# Altium footprint library PCB1.PcbLib: 12 footprints
Each footprint in its own frame and in the unit in brackets; x right, y up, seen from the top. Pads: shape width x height; smd on the part's side, far side on the other; paste and mask are expansions set on the pad; w line width, h text height; cw(c..) or ccw(c..) is an arc to the next point about the centre after c.
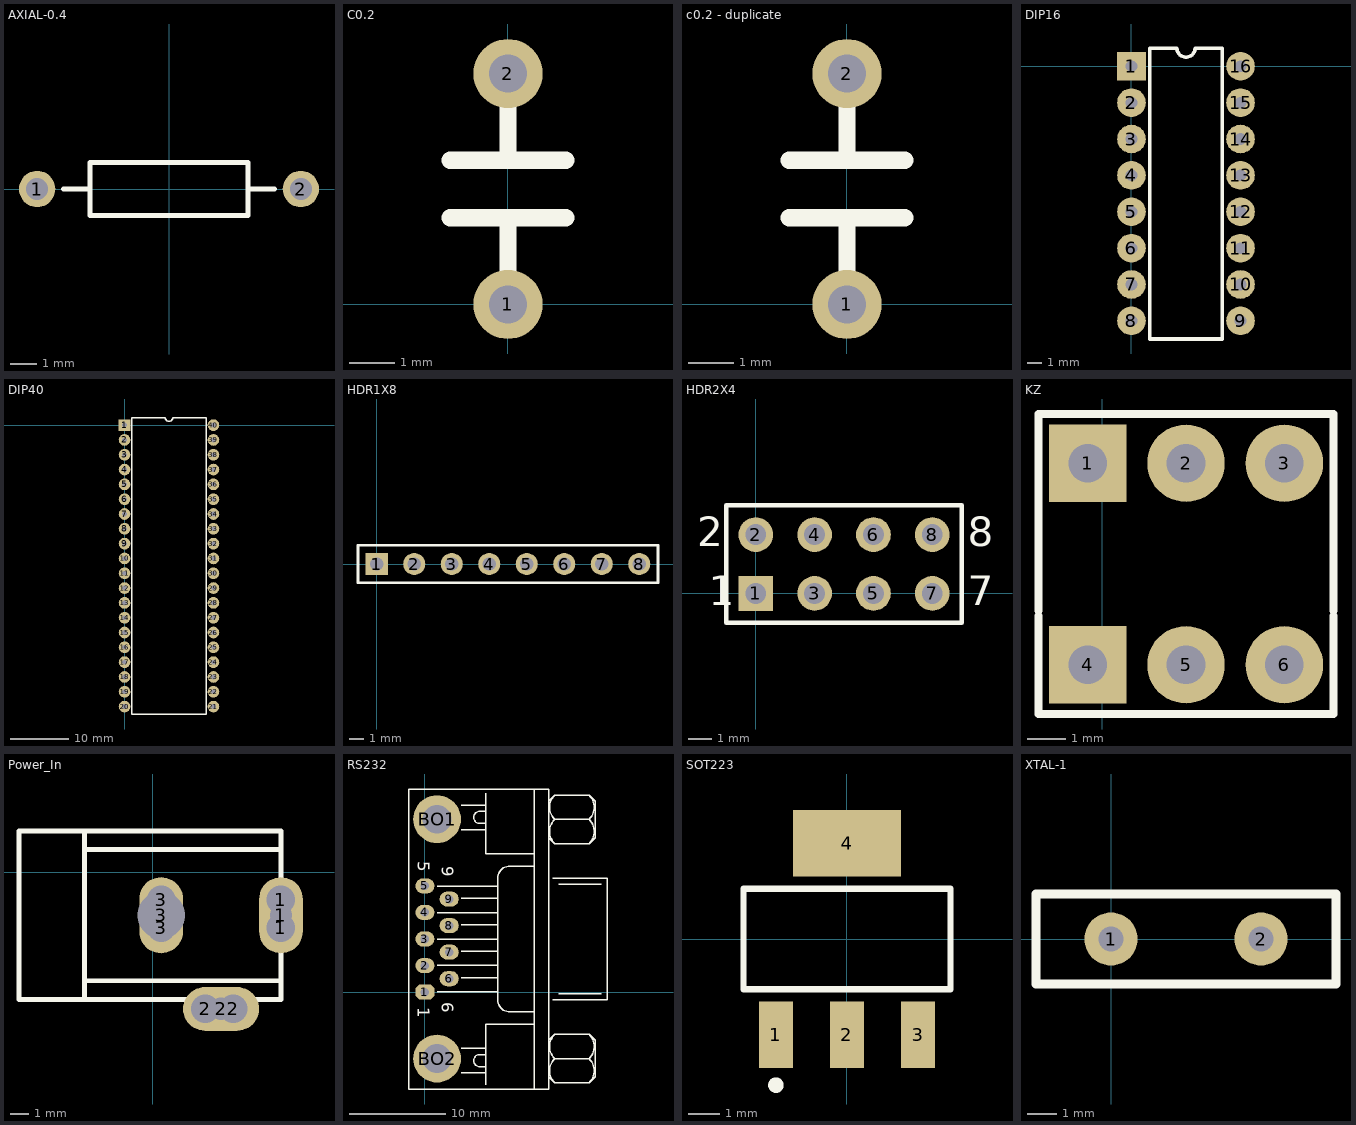
[diagram p0: the footprints below, top view; thin cyan lines are the x and y axes]

## AXIAL-0.4 [mm] "Resistor; 2 Leads"
height 2.032
pads (2):
  round 1.4 hole 0.85: 1(-5.08,0) 2(5.08,0)
Top Overlay:
  lines w0.2: -4.064,0 -3.048,0 ; 3.048,0 4.064,0 ; -3.048,-1.016 3.048,-1.016 3.048,1.016 -3.048,1.016 -3.048,-1.016

## C0.2 [mil]
pads (2):
  round 60 hole 33: 1(0,0) 2(0,200)
Top Overlay:
  lines w15: -50,75 50,75 ; -50,125 50,125 ; 0,0 0,75 ; 0,125 0,200

## c0.2 - duplicate [mil]
pads (2):
  round 60 hole 33: 1(0,0) 2(0,200)
Top Overlay:
  lines w15: -50,75 50,75 ; -50,125 50,125 ; 0,0 0,75 ; 0,125 0,200

## DIP16 [mm]
pads (16):
  rect 2x2 hole 0.813: 1(0,0)
  round 2 hole 0.813: 2(0,-2.54) 3(0,-5.08) 4(0,-7.62) 5(0,-10.16) 6(0,-12.7) 7(0,-15.24) 8(0,-17.78) 9(7.62,-17.78) 10(7.62,-15.24) 11(7.62,-12.7) 12(7.62,-10.16) 13(7.62,-7.62) 14(7.62,-5.08) 15(7.62,-2.54) 16(7.62,0)
Top Overlay:
  lines w0.254: 1.27,-19.05 1.27,1.27 3.175,1.27 ccw(c3.81,1.27) 4.445,1.27 6.35,1.27 6.35,-19.05 1.27,-19.05

## DIP40 [mm]
pads (40):
  rect 2x2 hole 0.813: 1(0,0)
  round 2 hole 0.813: 2(0,-2.54) 3(0,-5.08) 4(0,-7.62) 5(0,-10.16) 6(0,-12.7) 7(0,-15.24) 8(0,-17.78) 9(0,-20.32) 10(0,-22.86) 11(0,-25.4) 12(0,-27.94) 13(0,-30.48) 14(0,-33.02) 15(0,-35.56) 16(0,-38.1) 17(0,-40.64) 18(0,-43.18) 19(0,-45.72) 20(0,-48.26) 21(15.24,-48.26) 22(15.24,-45.72) 23(15.24,-43.18) 24(15.24,-40.64) 25(15.24,-38.1) 26(15.24,-35.56) 27(15.24,-33.02) 28(15.24,-30.48) 29(15.24,-27.94) 30(15.24,-25.4) 31(15.24,-22.86) 32(15.24,-20.32) 33(15.24,-17.78) 34(15.24,-15.24) 35(15.24,-12.7) 36(15.24,-10.16) 37(15.24,-7.62) 38(15.24,-5.08) 39(15.24,-2.54) 40(15.24,0)
Top Overlay:
  lines w0.254: 1.27,-49.53 1.27,1.27 6.985,1.27 ccw(c7.62,1.27) 8.255,1.27 13.97,1.27 13.97,-49.53 1.27,-49.53

## HDR1X8 [mm] "Connector; Header; 8 Position"
pads (8):
  rect 1.5x1.5 hole 0.9: 1(0,0)
  round 1.5 hole 0.9: 2(2.54,0) 3(5.08,0) 4(7.62,0) 5(10.16,0) 6(12.7,0) 7(15.24,0) 8(17.78,0)
Top Overlay:
  lines w0.2: -1.27,-1.27 19.05,-1.27 19.05,1.27 -1.27,1.27 -1.27,-1.27

## HDR2X4 [mm] "Connector; Header; 4x2 Position"
pads (8):
  rect 1.5x1.5 hole 0.9: 1(0,0)
  round 1.5 hole 0.9: 2(0,2.54) 3(2.54,0) 4(2.54,2.54) 5(5.08,0) 6(5.08,2.54) 7(7.62,0) 8(7.62,2.54)
Top Overlay:
  lines w0.2: -1.27,-1.27 8.89,-1.27 8.89,3.81 -1.27,3.81 -1.27,-1.27
  text "2" at -2.54,2.032 h1.27
  text "1" at -2.032,-0.508 h1.27
  text "7" at 9.144,-0.508 h1.27
  text "8" at 9.144,2.032 h1.27

## KZ [mm]
pads (6):
  rect 2x2 hole 1: 1(-0.381,-10.414) 4(-0.381,-15.621)
  round 2 hole 1: 2(2.159,-10.414) 3(4.699,-10.414) 5(2.159,-15.621) 6(4.699,-15.621)
Top Overlay:
  lines w0.2: -1.651,-14.351 -1.651,-16.891 5.969,-16.891 5.969,-14.351 ; -1.651,-14.224 -1.651,-11.684 -1.651,-9.144 5.969,-9.144 5.969,-11.684 5.969,-14.224

## Power_In [mil]
pads (9):
  rect 60x60 hole 60: 1(270,-116) 2(170,-287) 3(18,-57)
  oval 92x160 hole 47: 1(270,-90)
  rect 50x60 hole 60: 1(270,-57) 3(18,-116)
  rect 60x50 hole 60: 2(111,-287)
  oval 160x92 hole 47: 2(144,-287)
  oval 92x160 hole 100: 3(18,-90)
Top Overlay:
  lines w10: -143,-267 -143,87 ; -143,-228 270,-228 ; -143,48 270,48 ; -281,-267 270,-267 270,87 -281,87 -281,-267

## RS232 [mil]
pads (11):
  oct 78.74x62 hole 35: 1(0,0)
  oval 78.74x62 hole 35: 2(0,109.17) 3(0,218.33) 4(0,327.5) 5(0,436.67) 6(100,55) 7(100,164.17) 8(100,273.33) 9(100,382.5)
  round 196.67 hole 118.33: BO1(50,710.83) BO2(50,-273.33)
Top Overlay:
  lines w6: 50,1.67 300,1.67 ; 50,110 300,110 ; 50,218.33 300,218.33 ; 50,326.67 300,326.67 ; 50,435 300,435 ; 150,-331.67 250,-331.67 ; 150,-231.67 250,-231.67 ; 150,60 158.33,60 300,60 ; 150,168.33 300,168.33 ; 150,276.67 300,276.67 ; 150,385 300,385 ; 150,668.33 250,668.33 ; 150,768.33 250,768.33 ; 250,-381.67 250,-131.67 450,-131.67 ; 250,-306.67 225,-306.67 cw(c225,-281.67) 225,-256.67 250,-256.67 ; 250,693.33 225,693.33 cw(c225,718.33) 225,743.33 250,743.33 ; 250,818.33 250,568.33 450,568.33 ; 450,-398.33 450,835 ; 450,-81.67 350,-81.67 cw(c350,-31.67) 300,-31.67 300,468.33 cw(c350,468.33) 350,518.33 450,518.33 ; 508.33,-348.33 533.33,-373.33 675,-373.33 700,-348.33 700,-198.33 675,-173.33 533.33,-173.33 508.33,-198.33 ; 508.33,635 533.33,610 675,610 700,635 700,785 675,810 533.33,810 508.33,785 ; 525,-31.67 750,-31.67 750,468.33 525,468.33 ; 533.25,-373.42 cw(c583.33,-323.33) 533.25,-273.25 ; 533.25,-273.42 cw(c583.33,-223.33) 533.25,-173.25 ; 533.25,609.91 cw(c583.33,660) 533.25,710.09 ; 533.25,709.91 cw(c583.33,760) 533.25,810.09 ; 533.33,-273.33 675,-273.33 ; 533.33,710 675,710 ; 550,-6.67 725,-6.67 ; 550,443.33 725,443.33 ; 675.09,-373.42 ccw(c625,-323.33) 675.09,-273.25 ; 675.09,-273.42 ccw(c625,-223.33) 675.09,-173.25 ; 675.09,609.91 ccw(c625,660) 675.09,710.09 ; 675.09,709.91 ccw(c625,760) 675.09,810.09 ; -66.67,-398.33 508.33,-398.33 508.33,835 -66.67,835 -66.67,-398.33
  text "9" at 70,518.33 h50
  text "5" at -30,538.33 h50
  text "1" at -30,-61.67 h50
  text "6" at 70,-41.67 h50

## SOT223 [mm] "SOT-223/SC-73; 4 Leads; Body 6.7 x 7.3 mm, inc. leads (LxW max)"
height 1.8
pads (4):
  rect 1.1x2.15 smd: 1(-2.3,-3.1) 2(0,-3.1) 3(2.3,-3.1)
  rect 3.5x2.15 smd: 4(0,3.1)
Top Overlay:
  circle w0.25: c-2.3,-4.725 r0.125
  lines w0.2: -3.35,-1.625 3.35,-1.625 3.35,1.625 -3.35,1.625 -3.35,-1.625

## XTAL-1 [mm]
pads (2):
  round 1.8 hole 0.85: 1(0,0) 2(5.08,0)
Top Overlay:
  lines w0.305: -2.54,-1.524 7.62,-1.524 7.62,1.524 -2.54,1.524 -2.54,-1.524